# EAGLE library part KA3843B (library Fairchild_By_element14_Batch_1)
SMPS Controller
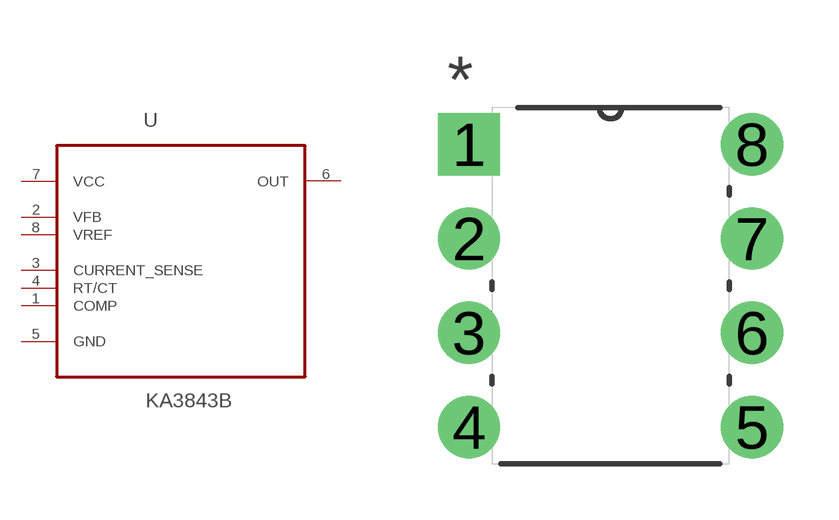
[diagram p201: symbol with the pads of DIP254P762X508-8; footprint DIP254P762X508-8]

Designator prefix U

## KA3843B (MPN: KA3843B; OC_FARNELL: 1013832; OC_NEWARK: 58K1771; PACKAGE: DIP-8; SUPPLIER: FAIRCHILD SEMICONDUCTOR)  [DIP254P762X508-8]
1  COMP  pas
2  VFB  pwr
3  CURRENT_SENSE  in
4  RT/CT  in
5  GND  pas
6  OUT  out
7  VCC  pwr
8  VREF  in

## Footprint DIP254P762X508-8 (pad centres in mm)
drill 1.118 square: 1 -7.62,7.62
drill 1.118: 2 -7.62,5.08; 3 -7.62,2.54; 4 -7.62,0; 5 0,0; 6 0,2.54; 7 0,5.08; 8 0,7.62